# Altium footprint library XTAL_HC49P488W45L1150T500H350.PcbLib: 1 footprints
Each footprint in its own frame and in the unit in brackets; x right, y up, seen from the top. Pads: shape width x height; smd on the part's side, far side on the other; paste and mask are expansions set on the pad; w line width, h text height; cw(c..) or ccw(c..) is an arc to the next point about the centre after c.
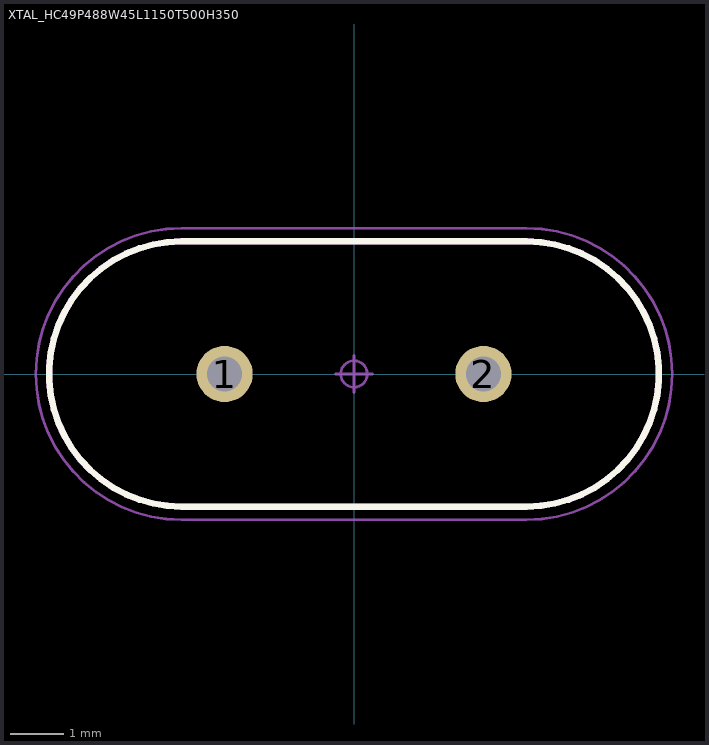
[diagram p0: the footprint, top view; thin cyan lines are the x and y axes]

## XTAL_HC49P488W45L1150T500H350 [mm] "Crystal, HC-49; 4.88 mm C X 0.457 mm W 11.50 mm L X 5.00 mm T X 3.50 mm H body"
height 3.5
pads (2):
  round 1.06 hole 0.66 paste-1.06: 1(-2.44,0) 2(2.44,0)
Top Overlay:
  lines w0.12: -3.25,-2.5 cw(c-3.25,0) -3.25,2.5 3.25,2.5 cw(c3.25,0) 3.25,-2.5 -3.25,-2.5
Mechanical 3:
  lines w0.12: -3.25,-2.5 cw(c-3.25,0) -3.25,2.5 3.25,2.5 cw(c3.25,0) 3.25,-2.5 -3.25,-2.5
Mechanical 5:
  circle w0.025: c2.44,0 r0.229
  circle w0.025: c-2.44,0 r0.229
  lines w0.025: -3.25,-2.5 cw(c-3.25,0) -3.25,2.5 3.25,2.5 cw(c3.25,0) 3.25,-2.5 -3.25,-2.5
Mechanical 7:
  circle w0.05: c0,0 r0.25
  lines w0.05: -0.35,0 0.35,0 ; 0,-0.35 0,0.35 ; -3.25,-2.75 cw(c-3.25,0) -3.25,2.75 3.25,2.75 cw(c3.25,0) 3.25,-2.75 -3.25,-2.75
Mechanical 9:
  text "'.Designator'" at -5.461,-1.143 h1
3D body "XTAL_HC49P488W45L1150T500H350.STEP": height 3.5, standoff -2, extent -5.75,-2.5 5.75,2.5